# Altium schematic symbol library USB-B-S-RA-WT-SPCC.SchLib: 1 symbol
Pins are listed as number, name and electrical type; pins without a type are passive.

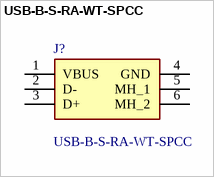
[diagram p0: symbol USB-B-S-RA-WT-SPCC]

## USB-B-S-RA-WT-SPCC
designator J?
USB-B (USB TYPE-B) Receptacle Connector 4 Position Through Hole, Right Angle; Manufacturer_Name: Adam Tech; Geometry.Height: 11.43mm; Mouser Part Number: 737-USBBSRAWTSPCC; Mouser Price/Stock: https://www.mouser.co.uk/ProductDetail/Adam-Tech/USB-B-S-RA-WT-SPCC?qs=HoCaDK9Nz5cHxCm3vWfCRw%3D%3D; Manufacturer_Part_Number: USB-B-S-RA-WT-SPCC; Datasheet Link: https://www.mouser.co.uk/ProductDetail/Adam-Tech/USB-B-S-RA-WT-SPCC?qs=HoCaDK9Nz5cHxCm3vWfCRw%3D%3D
footprint USBBSRAWTSPCC
pins: 1 VBUS, 2 D-, 3 D+, 4 GND, 5 MH_1, 6 MH_2